# Altium footprint library RS485.PcbLib: 1 footprints
Each footprint in its own frame and in the unit in brackets; x right, y up, seen from the top. Pads: shape width x height; smd on the part's side, far side on the other; paste and mask are expansions set on the pad; w line width, h text height; cw(c..) or ccw(c..) is an arc to the next point about the centre after c.
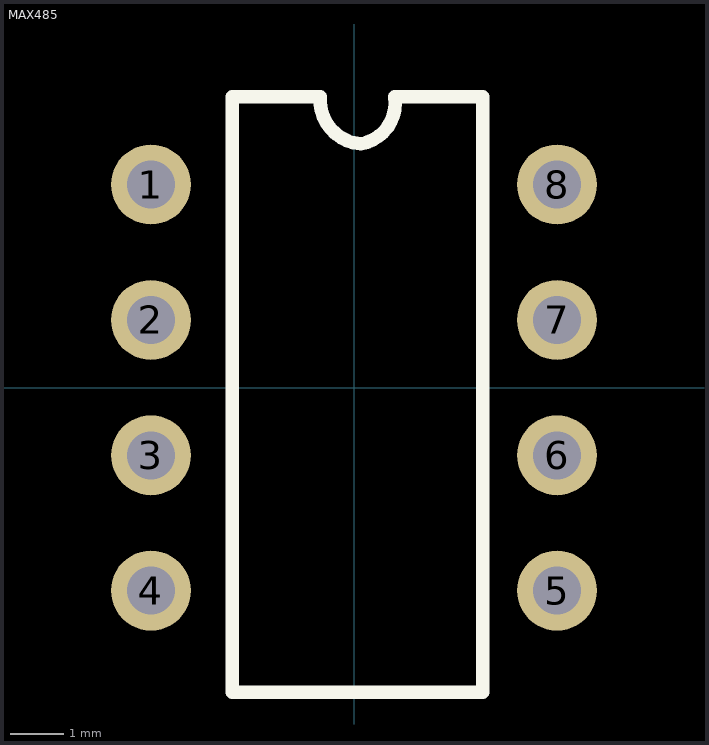
[diagram p0: the footprint, top view; thin cyan lines are the x and y axes]

## MAX485 [mm] "485通信"
pads (8):
  round 1.5 hole 0.9: 1(-3.81,3.81) 2(-3.81,1.27) 3(-3.81,-1.27) 4(-3.81,-3.81) 5(3.81,-3.81) 6(3.81,-1.27) 7(3.81,1.27) 8(3.81,3.81)
Top Overlay:
  lines w0.254: -2.286,-5.715 2.413,-5.715 2.413,5.461 0.762,5.461 cw(c0,5.334) 0.127,4.572 cw(c0.191,5.397) -0.635,5.461 -2.286,5.461 -2.286,-5.715